# EAGLE library part PCF8563 (library Custom)
Real time clock/calendar The PCF8563 is a CMOS Real-Time Clock (RTC) and calendar optimized for low power consumption. A programmable clock output, interrupt output, and voltage-low detector are also provided. All addresses and data are transferred serially via a two-line bidirectional I2C-bus. Maximum bus speed is 400 kbit/s. The register address is incremented automatically after each written or read data byte. AAL Eindhoven MK
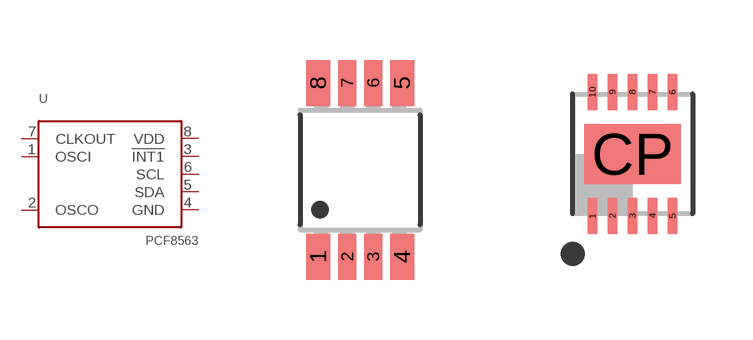
[diagram p64: symbol with the pads of SOT505-1; footprints SOT505-1, SOT650]

Designator prefix U

## PCF8563TS  [SOT505-1]
1  OSCI  pas
2  OSCO  pas
3  !INT1!  out
4  GND  pwr
5  SDA
6  SCL  in
7  CLKOUT  out
8  VDD  pwr

## PCF8563BS  [SOT650]
1  OSCI  pas
2  OSCO  pas
4  !INT1!  out
5  GND  pwr
6  SDA
7  SCL  in
8  CLKOUT  out
9  VDD  pwr

## PCF8563P  [SOT97-1]
Pads as for SOT505-1

## PCF8563T  [SOT96-1]
Pads as for SOT505-1

## Footprint SOT505-1 (pad centres in mm)
SOT505-1 TSSOP8: plastic thin shrink small outline package; 8 leads; body width 3 mm JEDEC: -- IEC: --
smd 0.6 x 1.15: 1 -1.05,-2.175; 4 1.05,-2.175; 5 1.05,2.175; 8 -1.05,2.175
smd 0.45 x 1.15: 2 -0.325,-2.175; 3 0.325,-2.175; 6 0.325,2.175; 7 -0.325,2.175

## Footprint SOT650 (pad centres in mm)
SOT650 HVSON10: plastic thermal enhanced very thin small outline package; no leads; 10 terminals; body 3 x 3 x 0.85 mm JEDEC: MO-229 IEC: -- JEITA:--
smd 0.24 x 0.9: 1 -1,-1.55; 2 -0.5,-1.55; 3 0,-1.55; 4 0.5,-1.55; 5 1,-1.55; 6 1,1.55; 7 0.5,1.55; 8 0,1.55; 9 -0.5,1.55; 10 -1,1.55
smd 2.4 x 1.5: CP 0,0

## Footprint SOT97-1 (pad centres in mm)
Dual In Line Package
drill 0.813 long: 1 -3.81,-3.81; 2 -1.27,-3.81; 3 1.27,-3.81; 4 3.81,-3.81; 5 3.81,3.81; 6 1.27,3.81; 7 -1.27,3.81; 8 -3.81,3.81

## Footprint SOT96-1 (pad centres in mm)
SOT96-1 SO8: plastic small outline package; 8 leads; body width 3.9 mm JEDEC: MS-012 IEC: 076E03
smd 0.6 x 1.3: 1 -1.905,-2.65; 2 -0.635,-2.65; 3 0.635,-2.65; 4 1.905,-2.65; 5 1.905,2.65; 6 0.635,2.65; 7 -0.635,2.65; 8 -1.905,2.65